# EAGLE library part NT3H2111-SOIC8 (library NXP-NT3H)
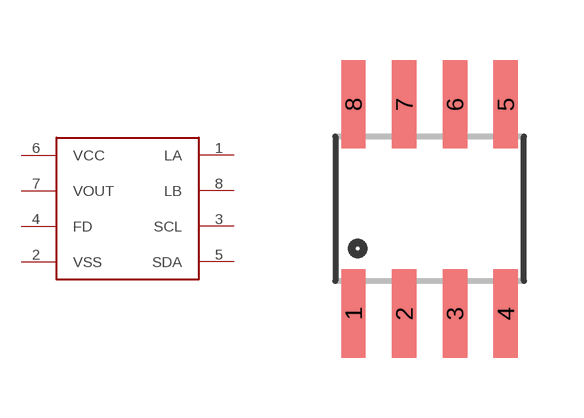
[diagram p2: symbol with the pads of SOIC8; footprint SOIC8]

Designator prefix -

## NT3H2111-SOIC8  [SOIC8]
1  LA
2  VSS
3  SCL
4  FD
5  SDA
6  VCC
7  VOUT
8  LB

## Footprint SOIC8 (pad centres in mm)
smd 0.61 x 2.21: 1 -1.905,-2.616; 2 -0.635,-2.616; 3 0.635,-2.616; 4 1.905,-2.616; 5 1.905,2.616; 6 0.635,2.616; 7 -0.635,2.616; 8 -1.905,2.616